# Altium footprint library LSM303AGRTR.PcbLib: 1 footprints
Each footprint in its own frame and in the unit in brackets; x right, y up, seen from the top. Pads: shape width x height; smd on the part's side, far side on the other; paste and mask are expansions set on the pad; w line width, h text height; cw(c..) or ccw(c..) is an arc to the next point about the centre after c.
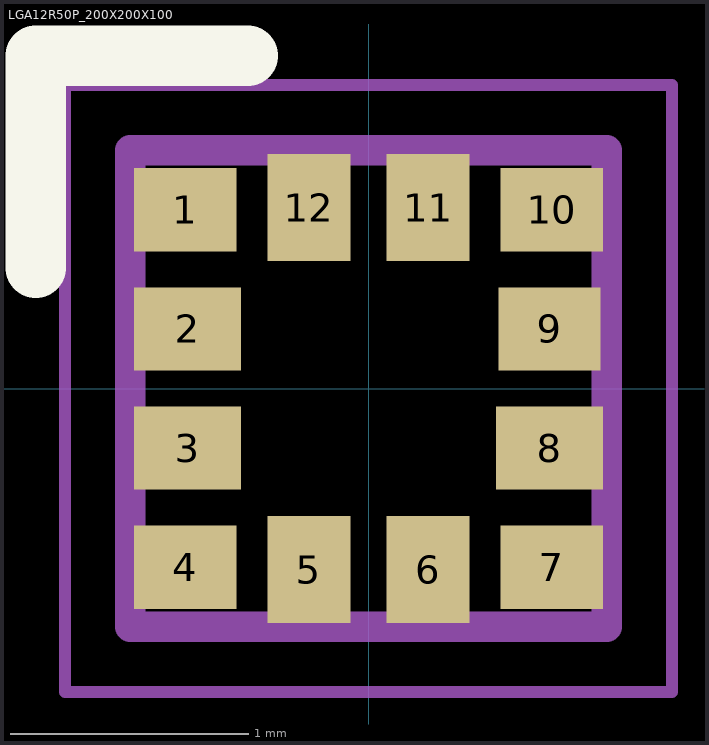
[diagram p0: the footprint, top view; thin cyan lines are the x and y axes]

## LGA12R50P_200X200X100 [mm]
pads (12):
  rect 0.43x0.35 smd: 1(-0.77,0.75) 4(-0.77,-0.75) 7(0.77,-0.75) 9(0.76,0.25) 10(0.77,0.75)
  rect 0.45x0.35 smd: 2(-0.76,0.25) 3(-0.76,-0.25) 8(0.76,-0.25)
  rect 0.35x0.45 smd: 5(-0.25,-0.76) 6(0.25,-0.76) 11(0.25,0.76) 12(-0.25,0.76)
Top Overlay:
  lines w0.254: -1.397,0.508 -1.397,1.397 -0.508,1.397
Top Solder:
  region: 0.04,-0.5 0.46,-0.5 0.46,-1.023 0.04,-1.023
  region: -0.461,-0.5 -0.04,-0.5 -0.04,-1.022 -0.461,-1.022
  region: 0.04,1.02 0.46,1.02 0.46,0.501 0.04,0.501
  region: -0.461,1.02 -0.04,1.02 -0.04,0.501 -0.461,0.501
  region: 0.507,-0.54 1.025,-0.54 1.025,-0.964 0.507,-0.964
  region: 0.506,-0.04 1.025,-0.04 1.025,-0.461 0.506,-0.461
  region: 0.506,0.46 1.025,0.46 1.025,0.04 0.506,0.04
  region: 0.508,0.96 1.025,0.96 1.025,0.543 0.508,0.543
  region: -1.023,-0.54 -0.5,-0.54 -0.5,-0.963 -1.023,-0.963
  region: -1.024,-0.04 -0.5,-0.04 -0.5,-0.462 -1.024,-0.462
  region: -1.023,0.46 -0.5,0.46 -0.5,0.04 -1.023,0.04
  region: -1.023,0.96 -0.5,0.96 -0.5,0.542 -1.023,0.542
Outline:
  lines w0.05: -1.275,-1.275 -1.275,1.275 1.275,1.275 1.275,-1.275 -1.275,-1.275
  lines w0.127: -1,-1 -1,1 1,1 1,-1 -1,-1
3D body: height 1, standoff 0, extent -1.014,-1.028 1.018,1.004